# Altium footprint library PcbLib1.PcbLib: 98 footprints (part 4 of 7)
Each footprint in its own frame and in the unit in brackets; x right, y up, seen from the top. Pads: shape width x height; smd on the part's side, far side on the other; paste and mask are expansions set on the pad; w line width, h text height; cw(c..) or ccw(c..) is an arc to the next point about the centre after c.
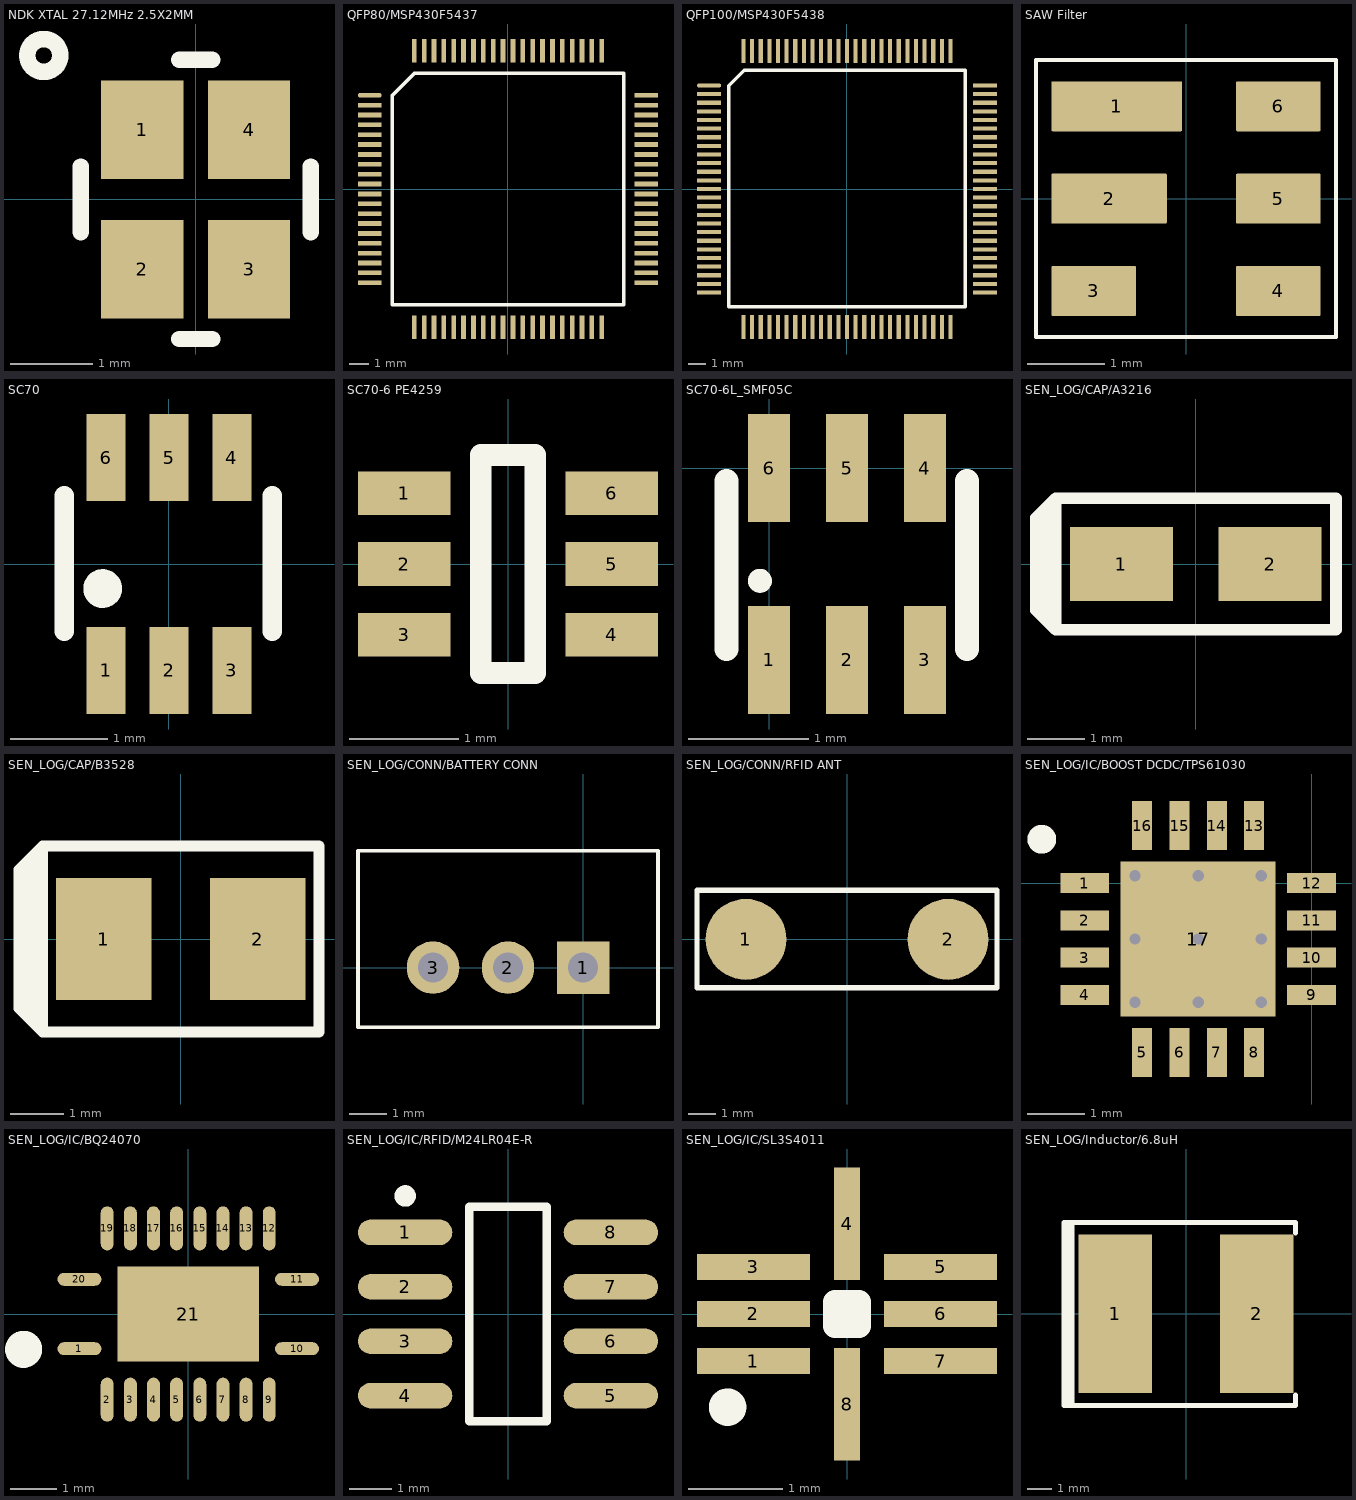
[diagram p3: the footprints below, top view; thin cyan lines are the x and y axes]

## NDK XTAL 27.12MHz 2.5X2MM [mm]
pads (4):
  rect 1x1.2 smd paste+0 mask+0.1: 1(-0.65,0.85) 3(0.65,-0.85) 4(0.65,0.85)
  rect 1x1.2 smd mask+0.1: 2(-0.65,-0.85)
Top Overlay:
  lines w0.2: -1.4,-0.4 -1.4,0.4 ; -0.2,-1.7 0.2,-1.7 ; -0.2,1.7 0.2,1.7 ; 1.4,-0.4 1.4,0.4 ; -2.049,1.752 -2.049,1.766 -2.047,1.78 -2.045,1.794 -2.041,1.808 -2.037,1.821 -2.032,1.834 -2.026,1.846 -2.019,1.858 -2.011,1.87 -2.002,1.881 -1.993,1.891 -1.983,1.901 -1.972,1.91 -1.961,1.918 -1.949,1.926 -1.937,1.932 -1.924,1.938 -1.911,1.943 -1.898,1.947 -1.884,1.949 -1.87,1.951 -1.856,1.952 -1.842,1.952 -1.828,1.951 -1.814,1.949 -1.801,1.947 -1.787,1.943 -1.774,1.938 -1.761,1.932 -1.749,1.926 -1.737,1.918 -1.726,1.91 -1.715,1.901 -1.705,1.891 -1.696,1.881 -1.687,1.87 -1.68,1.858 -1.673,1.846 -1.666,1.834 -1.661,1.821 -1.657,1.808 -1.654,1.794 -1.651,1.78 -1.65,1.766 -1.649,1.752 -1.65,1.738 -1.651,1.725 -1.654,1.711 -1.657,1.697 -1.661,1.684 -1.666,1.671 -1.673,1.659 -1.68,1.646 -1.687,1.635 -1.696,1.624 -1.705,1.614 -1.715,1.604 -1.726,1.595 -1.737,1.587 -1.749,1.579 -1.761,1.573 -1.774,1.567 -1.787,1.562 -1.801,1.558 -1.814,1.555 -1.828,1.554 -1.842,1.553 -1.856,1.553 -1.87,1.554 -1.884,1.555 -1.898,1.558 -1.911,1.562 -1.924,1.567 -1.937,1.573 -1.949,1.579 -1.961,1.587 -1.972,1.595 -1.983,1.604 -1.993,1.614 -2.002,1.624 -2.011,1.635 -2.019,1.646 -2.026,1.659 -2.032,1.671 -2.037,1.684 -2.041,1.697 -2.045,1.711 -2.047,1.725 -2.049,1.738 -2.049,1.752

## QFP80/MSP430F5437 [mm]
pads (80):
  oval 1.2x0.24 smd: 1(-7,4.75)
  rect 1.2x0.24 smd: 2(-7,4.25) 3(-7,3.75) 4(-7,3.25) 5(-7,2.75) 6(-7,2.25) 7(-7,1.75) 8(-7,1.25) 9(-7,0.75) 10(-7,0.25) 11(-7,-0.25) 12(-7,-0.75) 13(-7,-1.25) 14(-7,-1.75) 15(-7,-2.25) 16(-7,-2.75) 17(-7,-3.25) 18(-7,-3.75) 19(-7,-4.25) 20(-7,-4.75) 41(7,-4.75) 42(7,-4.25) 43(7,-3.75) 44(7,-3.25) 45(7,-2.75) 46(7,-2.25) 47(7,-1.75) 48(7,-1.25) 49(7,-0.75) 50(7,-0.25) 51(7,0.25) 52(7,0.75) 53(7,1.25) 54(7,1.75) 55(7,2.25) 56(7,2.75) 57(7,3.25) 58(7,3.75) 59(7,4.25) 60(7,4.75)
  rect 0.24x1.2 smd: 21(-4.75,-7) 22(-4.25,-7) 23(-3.75,-7) 24(-3.25,-7) 25(-2.75,-7) 26(-2.25,-7) 27(-1.75,-7) 28(-1.25,-7) 29(-0.75,-7) 30(-0.25,-7) 31(0.25,-7) 32(0.75,-7) 33(1.25,-7) 34(1.75,-7) 35(2.25,-7) 36(2.75,-7) 37(3.25,-7) 38(3.75,-7) 39(4.25,-7) 40(4.75,-7) 61(4.75,7) 62(4.25,7) 63(3.75,7) 64(3.25,7) 65(2.75,7) 66(2.25,7) 67(1.75,7) 68(1.25,7) 69(0.75,7) 70(0.25,7) 71(-0.25,7) 72(-0.75,7) 73(-1.25,7) 74(-1.75,7) 75(-2.25,7) 76(-2.75,7) 77(-3.25,7) 78(-3.75,7) 79(-4.25,7) 80(-4.75,7)
Top Overlay:
  lines w0.2: -5.865,-5.865 -5.865,4.73 -4.73,5.865 5.865,5.865 5.865,-5.865 -5.865,-5.865

## QFP100/MSP430F5438 [mm]
pads (100):
  oval 1.4x0.24 smd: 1(-8,6)
  rect 1.4x0.24 smd: 2(-8,5.5) 3(-8,5) 4(-8,4.5) 5(-8,4) 6(-8,3.5) 7(-8,3) 8(-8,2.5) 9(-8,2) 10(-8,1.5) 11(-8,1) 12(-8,0.5) 13(-8,0) 14(-8,-0.5) 15(-8,-1) 16(-8,-1.5) 17(-8,-2) 18(-8,-2.5) 19(-8,-3) 20(-8,-3.5) 21(-8,-4) 22(-8,-4.5) 23(-8,-5) 24(-8,-5.5) 25(-8,-6) 51(8,-6) 52(8,-5.5) 53(8,-5) 54(8,-4.5) 55(8,-4) 56(8,-3.5) 57(8,-3) 58(8,-2.5) 59(8,-2) 60(8,-1.5) 61(8,-1) 62(8,-0.5) 63(8,0) 64(8,0.5) 65(8,1) 66(8,1.5) 67(8,2) 68(8,2.5) 69(8,3) 70(8,3.5) 71(8,4) 72(8,4.5) 73(8,5) 74(8,5.5) 75(8,6)
  rect 0.24x1.4 smd: 26(-6,-8) 27(-5.5,-8) 28(-5,-8) 29(-4.5,-8) 30(-4,-8) 31(-3.5,-8) 32(-3,-8) 33(-2.5,-8) 34(-2,-8) 35(-1.5,-8) 36(-1,-8) 37(-0.5,-8) 38(0,-8) 39(0.5,-8) 40(1,-8) 41(1.5,-8) 42(2,-8) 43(2.5,-8) 44(3,-8) 45(3.5,-8) 46(4,-8) 47(4.5,-8) 48(5,-8) 49(5.5,-8) 50(6,-8) 76(6,8) 77(5.5,8) 78(5,8) 79(4.5,8) 80(4,8) 81(3.5,8) 82(3,8) 83(2.5,8) 84(2,8) 85(1.5,8) 86(1,8) 87(0.5,8) 88(0,8) 89(-0.5,8) 90(-1,8) 91(-1.5,8) 92(-2,8) 93(-2.5,8) 94(-3,8) 95(-3.5,8) 96(-4,8) 97(-4.5,8) 98(-5,8) 99(-5.5,8) 100(-6,8)
Top Overlay:
  lines w0.2: -6.857,-6.827 -6.857,6 -5.968,6.889 6.859,6.889 6.859,-6.827 -6.857,-6.827

## SAW Filter [mm]
pads (6):
  rrect5% 1.7x0.65 smd mask+0.05: 1(-0.9,1.2)
  rrect5% 1.5x0.65 smd mask+0.05: 2(-1,0)
  rrect5% 1.1x0.65 smd mask+0.05: 3(-1.2,-1.2) 4(1.2,-1.2) 5(1.2,0) 6(1.2,1.2)
Top Overlay:
  lines w0.05: -1.95,-1.8 -1.95,1.8 1.95,1.8 1.95,-1.8 -1.95,-1.8

## SC70 [mm]
pads (6):
  rect 0.4x0.9 smd: 1(-0.65,-1.1) 2(0,-1.1) 3(0.65,-1.1) 4(0.65,1.1) 5(0,1.1) 6(-0.65,1.1)
Top Overlay:
  circle w0.2: c-0.686,-0.254 r0.1
  lines w0.2: -1.082,-0.694 -1.082,0.706 ; 1.068,-0.694 1.068,0.706

## SC70-6 PE4259 [mm]
pads (6):
  rect 0.85x0.4 smd mask+0.05: 1(-0.95,0.65) 2(-0.95,0) 3(-0.95,-0.65) 4(0.95,-0.65) 5(0.95,0) 6(0.95,0.65)
Top Overlay:
  lines w0.2: -0.25,-1 -0.25,1 0.25,1 0.25,-1 -0.25,-1

## SC70-6L_SMF05C [mm]
pads (6):
  rect 0.35x0.9 smd mask+0.05: 1(0,-1.6) 2(0.65,-1.6) 3(1.3,-1.6) 4(1.3,0) 5(0.65,0) 6(0,0)
Top Overlay:
  circle w0.1: c-0.076,-0.94 r0.05
  lines w0.2: -0.356,-1.506 -0.356,-0.106 ; 1.651,-1.506 1.651,-0.106

## SEN_LOG/CAP/A3216 [mm]
pads (2):
  rect 1.8x1.3 smd: 1(-1.3,0) 2(1.3,0)
Top Overlay:
  lines w0.203: -2.66,0.806 -2.794,0.806 ; -2.591,-0.914 -2.591,0.737 ; -2.54,-0.965 -2.54,0.965 ; -2.794,0.806 -2.45,1.15 ; -2.794,0.806 -2.794,-0.806 -2.45,-1.15 ; -2.45,-1.15 -2.45,1.15 ; -2.45,-1.15 2.45,-1.15 2.45,1.15 -2.45,1.15

## SEN_LOG/CAP/B3528 [mm]
pads (2):
  rect 1.8x2.3 smd: 1(-1.45,0) 2(1.45,0)
Top Overlay:
  lines w0.203: -2.87,-1.473 -2.87,1.422 ; -2.718,-1.499 -2.718,1.575 ; -2.6,-1.75 -3.048,-1.302 -3.048,1.302 -2.6,1.75 ; -2.6,-1.75 -2.6,1.75 ; -2.6,-1.75 2.6,-1.75 2.6,1.75 -2.6,1.75

## SEN_LOG/CONN/BATTERY CONN [mm]
pads (3):
  rect 1.4x1.4 hole 0.8: 1(0,0)
  round 1.4 hole 0.8: 2(-2,0) 3(-4,0)
Top Overlay:
  lines w0.1: -6,-1.588 2,-1.588 2,3.112 -6,3.112 -6,-1.588

## SEN_LOG/CONN/RFID ANT [mm]
pads (2):
  round 3 smd: 1(-3.75,0) 2(3.75,0)
Top Overlay:
  lines w0.203: -5.563,-1.803 5.563,-1.803 5.563,1.829 -5.563,1.829 -5.563,-1.803

## SEN_LOG/IC/BOOST DCDC/TPS61030 [mm]
pads (17):
  rect 0.85x0.35 smd paste-0.025 mask+0.07: 1(-3.95,0) 2(-3.95,-0.65) 3(-3.95,-1.3) 4(-3.95,-1.95) 9(0,-1.95) 10(0,-1.3) 11(0,-0.65) 12(0,0)
  rect 0.35x0.85 smd paste-0.025 mask+0.07: 5(-2.95,-2.95) 6(-2.3,-2.95) 7(-1.65,-2.95) 8(-1,-2.95) 13(-1,1) 14(-1.65,1) 15(-2.3,1) 16(-2.95,1)
  rect 2.7x2.7 smd mask+0.07: 17(-1.975,-0.975)
via -3.075,-2.075 diameter 0.4 hole 0.2
via -3.075,-0.975 diameter 0.4 hole 0.2
via -3.075,0.125 diameter 0.4 hole 0.2
via -1.975,0.125 diameter 0.4 hole 0.2
via -0.875,0.125 diameter 0.4 hole 0.2
via -0.875,-0.975 diameter 0.4 hole 0.2
via -0.875,-2.075 diameter 0.4 hole 0.2
via -1.975,-2.075 diameter 0.4 hole 0.2
via -1.975,-0.975 diameter 0.4 hole 0.2
Top Overlay:
  circle w0.3: c-4.699,0.762 r0.1

## SEN_LOG/IC/BQ24070 [mm]
pads (21):
  oval 0.95x0.28 smd: 1(-2.35,-0.75) 10(2.35,-0.75) 11(2.35,0.75) 20(-2.35,0.75)
  oval 0.28x0.95 smd: 2(-1.75,-1.85) 3(-1.25,-1.85) 4(-0.75,-1.85) 5(-0.25,-1.85) 6(0.25,-1.85) 7(0.75,-1.85) 8(1.25,-1.85) 9(1.75,-1.85) 12(1.75,1.85) 13(1.25,1.85) 14(0.75,1.85) 15(0.25,1.85) 16(-0.25,1.85) 17(-0.75,1.85) 18(-1.25,1.85) 19(-1.75,1.85)
  rect 3.05x2.05 smd: 21(0,0)
Top Overlay:
  circle w0.6: c-3.556,-0.762 r0.1

## SEN_LOG/IC/RFID/M24LR04E-R [mm]
pads (8):
  oval 2.2x0.6 smd: 1(-2.4,1.905) 2(-2.4,0.635) 3(-2.4,-0.635) 4(-2.4,-1.905) 5(2.4,-1.905) 6(2.4,-0.635) 7(2.4,0.635) 8(2.4,1.905)
Top Overlay:
  circle w0.25: c-2.4,2.755 r0.125
  lines w0.2: -0.9,-2.5 0.9,-2.5 0.9,2.5 -0.9,2.5 -0.9,-2.5

## SEN_LOG/IC/SL3S4011 [mm]
pads (8):
  rect 1.2x0.28 smd: 1(-0.995,-0.5) 5(0.995,0.5) 6(0.995,0) 7(0.995,-0.5)
  rect 1.2x0.28 smd mask+0.102: 2(-0.995,0) 3(-0.995,0.5)
  rect 0.28x1.2 smd: 4(0,0.96) 8(0,-0.96)
Top Overlay:
  circle w0.254: c-1.27,-0.991 r0.072
  lines w0.254: -0.127,-0.127 0.127,-0.127 0.127,0.127 -0.127,0.127 -0.127,-0.127

## SEN_LOG/Inductor/6.8uH [mm]
pads (2):
  rect 3x6.5 smd: 1(-2.9,0) 2(2.9,0)
Top Overlay:
  lines w0.2: -4.826,-3.766 -4.826,3.683 ; -4.674,-3.766 -4.674,3.683 ; 4.496,-3.334 4.496,-3.766 -5.004,-3.766 -5.004,3.734 4.496,3.734 4.496,3.302